# Altium schematic symbol library MC.SchLib: 4 symbols
Pins are listed as number, name and electrical type; pins without a type are passive.

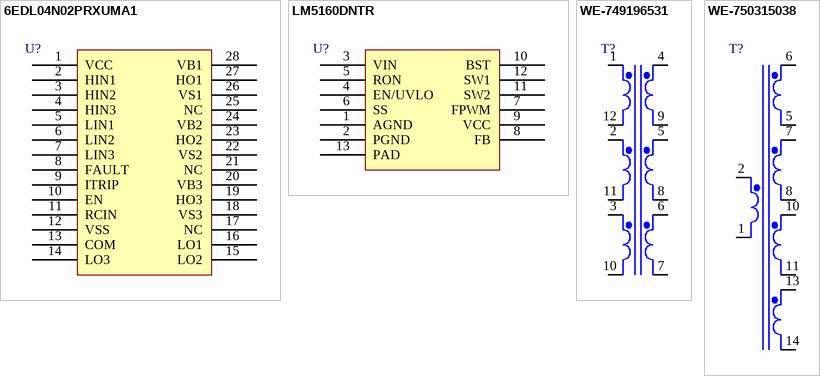
[diagram p0: symbols 6EDL04N02PRXUMA1 to WE-750315038]

## 6EDL04N02PRXUMA1
designator U?
200V Three Phase Gate Driver; Manufacturer: Infineon; Manufacturer Part Number: 6EDL04N02PRXUMA1; Datasheet: https://www.infineon.com/dgdl/6ED2-DB-Rev2_3.pdf?folderId=db3a30431a5c32f2011a77fa27a86cb5&fileId=db3a304336797ff901367c18c18445af; Supplier Part Number: 6EDL04N02PRXUMA1CT-ND; Supplier: Digikey
footprint TSOP65P640X120-28N (TSOP, 28-Leads, Body 9.70x4.40mm, Pitch 0.65mm, IPC Medium Density)
pins: 1 VCC (power), 2 HIN1, 3 HIN2, 4 HIN3, 5 LIN1, 6 LIN2, 7 LIN3, 8 FAULT, 9 ITRIP, 10 EN, 11 RCIN, 12 VSS, 13 COM (power), 14 LO3, 15 LO2, 16 LO1, 17 NC, 18 VS3, 19 HO3, 20 VB3, 21 NC, 22 VS2, 23 HO2, 24 VB2, 25 NC, 26 VS1, 27 HO1, 28 VB1

## LM5160DNTR
designator U?
IC REG BUCK FLYBCK ADJ 12WSON; Manufacturer: Texas Instruments; Manufacturer Part Number: LM5160DNTR; Datasheet: https://www.ti.com/lit/ds/symlink/lm5160.pdf?HQS=TI-null-null-digikeymode-df-pf-null-wwe&ts=1605241040592; Supplier Part Number: 296-46122-1-ND; Supplier: Digikey
footprint LM5160DNTR (SON, 12-Leads, Body 4.00x4.00mm, Pitch 0.50mm, Thermal Pad 3.00x2.49mm, IPC Medium Density)
pins: 1 AGND, 2 PGND, 3 VIN (power), 4 EN/UVLO, 5 RON, 6 SS, 7 FPWM, 8 FB, 9 VCC, 10 BST, 11 SW2, 12 SW1, 13 PAD

## WE-749196531
designator T?
TRANSFORMER 9.7UH 1.7A SMD 500VDC; Manufacturer: Würth Elektronik; Manufacturer Part Number: 749196531; Datasheet: https://www.we-online.de/katalog/datasheet/749196531.pdf; Supplier Part Number: 732-2456-1-ND; Supplier: Digikey
footprint WE-749196531
pins: 1 Pri+, 2 Pri+, 3 Pri+, 4 Sec+, 5 Sec+, 6 Sec+, 7 Sec-, 8 Sec-, 9 Sec-, 10 Pri-, 11 Pri-, 12 Pri-

## WE-750315038
designator T?
TRANSFORMER 36.5uH 300mA THT 26VDC; Manufacturer: Würth Elektronik; Manufacturer Part Number: 750315038; Datasheet: https://www.we-online.com/catalog/datasheet/750315038.pdf; Supplier Part Number: 1297-1155-ND; Supplier: Digikey
footprint WE-750315038
pins: 1 Pri-, 2 Pri+, 5 Sec-, 6 Sec+, 7 Sec+, 8 Sec-, 10 Sec+, 11 Sec-, 13 Sec+, 14 Sec-